# Altium schematic symbol library Module_Kits.SchLib: 10 symbols
Pins are listed as number, name and electrical type; pins without a type are passive.

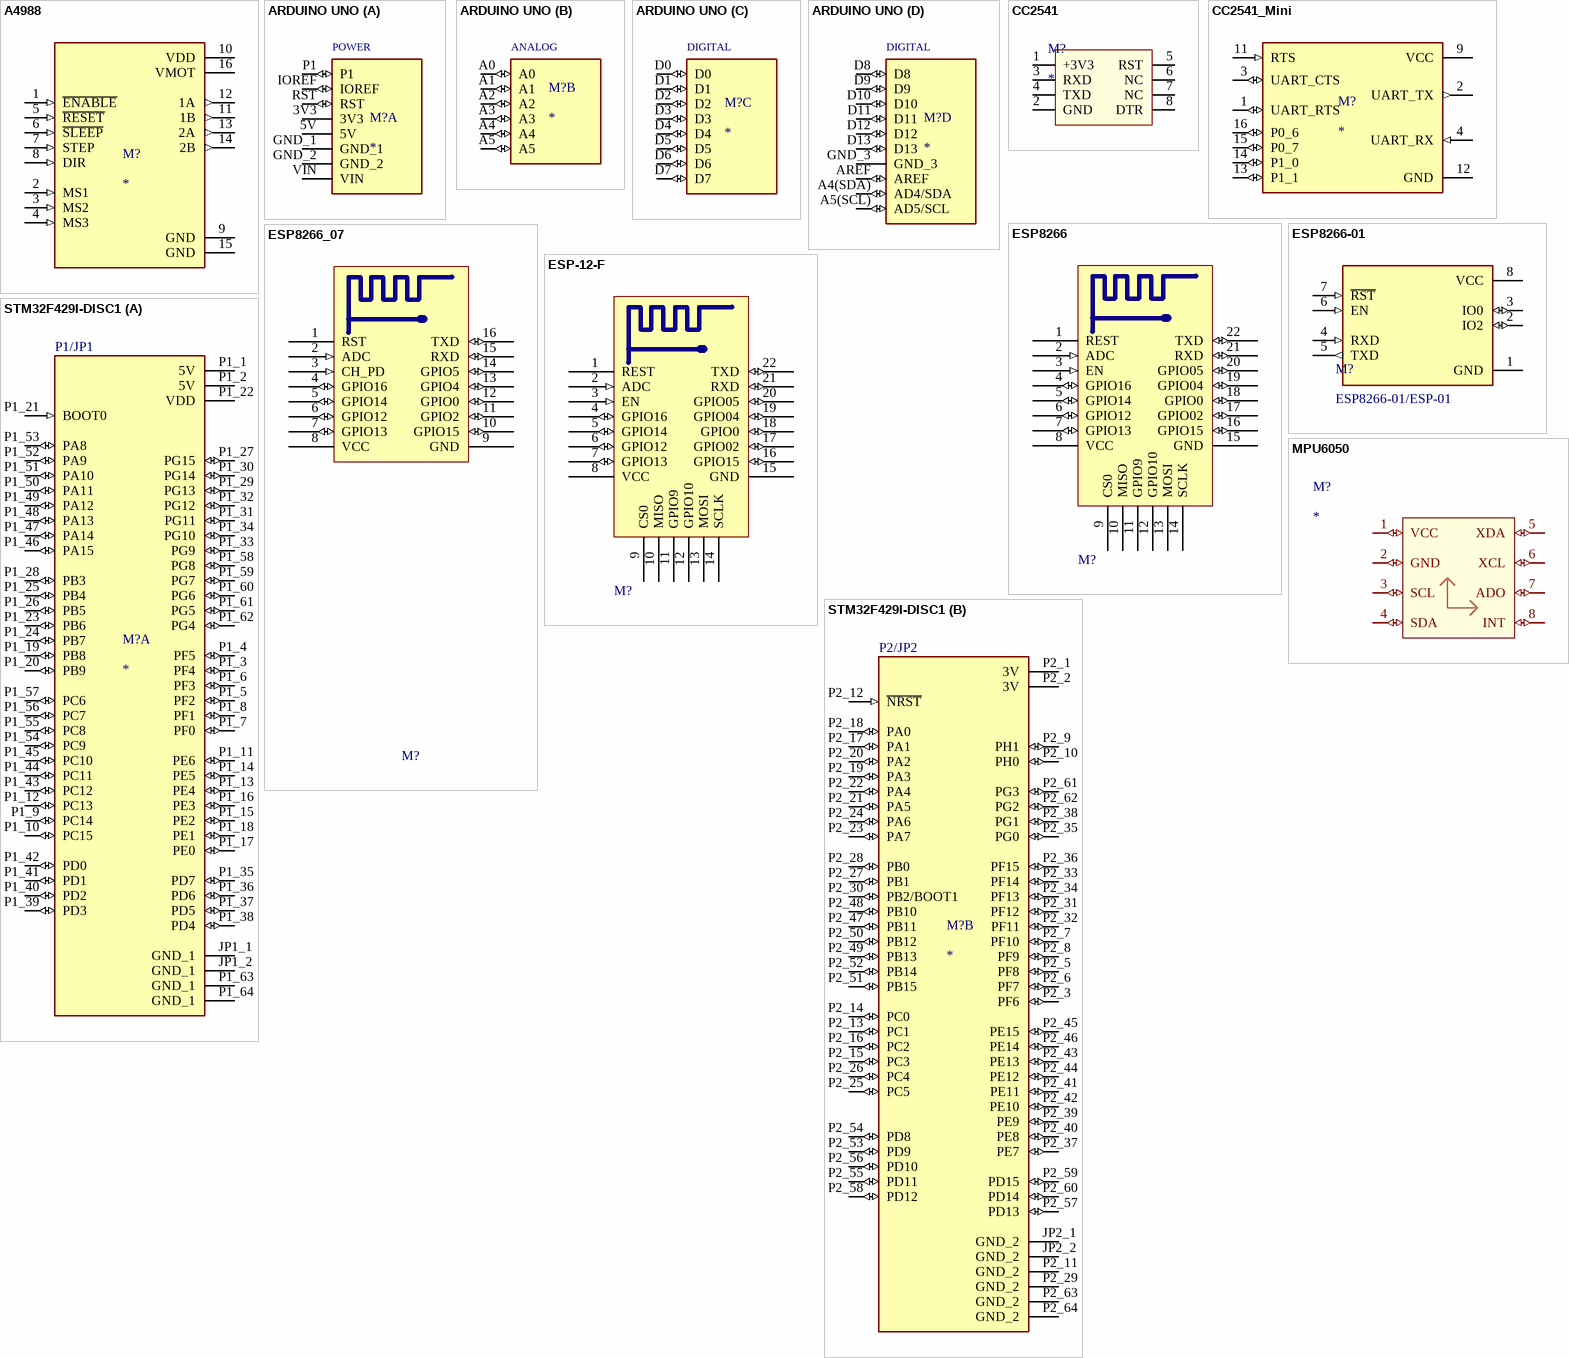
[diagram p0: symbols A4988 to STM32F429I-DISC1]

## A4988
designator M?
pins: 1 ~{ENABLE} (in), 2 MS1 (in), 3 MS2 (in), 4 MS3 (in), 5 ~{RESET} (in), 6 ~{SLEEP} (in), 7 STEP (in), 8 DIR (in), 9 GND (power), 10 VDD (power), 11 1B (out), 12 1A (out), 13 2A (out), 14 2B (out), 15 GND (power), 16 VMOT (power)

## ARDUINO UNO
designator M?
ATmega328P Arduino Uno R3 AVRÂ® ATmega AVR MCU 8-Bit Embedded Evaluation Board; MP: A000066; Value: *; Package: None; MF: Arduino; Price: None; Availability: Unavailable; SnapEDA_Link: https://www.snapeda.com/parts/A000066/Arduino/view-part/557638/?ref=snap
footprint ARDUINO_A000066; pin to pad A4(SDA)>A4(SDA
part A pins: 3V3 (power), 5V (power), GND_1 (power), GND_2 (power), IOREF (io), P1 (io), RST (io), VIN (power)
part B pins: A0 (io), A1 (io), A2 (io), A3 (io), A4 (io), A5 (io)
part C pins: D0 (io), D1 (io), D2 (io), D3 (io), D4 (io), D5 (io), D6 (io), D7 (io)
part D pins: A4(SDA) AD4/SDA (io), A5(SCL) AD5/SCL (io), AREF (io), D8 (io), D9 (io), D10 (io), D11 (io), D12 (io), D13 (io), GND_3 (power)
part A text: POWER
part B text: ANALOG
part C text: DIGITAL
part D text: DIGITAL

## CC2541
designator M?
pins: 1 +3V3, 2 GND, 3 RXD, 4 TXD, 5 RST, 6 NC, 7 NC, 8 DTR

## CC2541_Mini
designator M?
pins: 1 UART_RTS (io), 2 UART_TX (out), 3 UART_CTS (io), 4 UART_RX (in), 9 VCC (power), 11 RTS (in), 12 GND (power), 13 P1_1 (io), 14 P1_0 (io), 15 P0_7 (io), 16 P0_6 (io)

## ESP8266
designator M?, comment ESP8266 Module  (value not drawn)
ESP-12F WiFi Module; Part Number: ESP-12E; Reviewer: Fenrrich; ComponentLink1Description: Datasheet; ComponentLink1URL: https://wiki.ai-thinker.com/_media/esp8266/a014ps01.pdf; ComponentLink2Description: Manufacturer URL; ComponentLink2URL: https://wiki.ai-thinker.com; Publised: 06-May-2019; Publisher: Cynetik Group; Last Data Reviewer: 06-May-2019
pins: 1 REST, 2 ADC (in), 3 EN (in), 4 GPIO16 (io), 5 GPIO14 (io), 6 GPIO12 (io), 7 GPIO13 (io), 8 VCC (power), 9 CS0 "GPIO14 or SPI CLK", 10 MISO "GPIO12 or SPIQ", 11 GPIO9 "GPIO13 or SPID", 12 GPIO10 "GPIO15 or SPICS", 13 MOSI "GPIO2 or TX", 14 SCLK "GPIO0 or SPICS2", 15 GND (power), 16 GPIO15 (io), 17 GPIO02 (io), 18 GPIO0 (io), 19 GPIO04 (io), 20 GPIO05 (io), 21 RXD (io), 22 TXD (io)

## ESP8266-01
designator M?, comment ESP8266-01/ESP-01
pins: 1 GND (power), 2 IO2 (io), 3 IO0 (io), 4 RXD (in), 5 TXD (out), 6 EN (in), 7 ~{RST} (in), 8 VCC (power)

## ESP8266_07
designator M?, comment ESP8266 Module  (value not drawn)
ESP-07 WiFi Module; Part Number: ESP-12E; Reviewer: Fenrrich; ComponentLink1Description: Datasheet; ComponentLink1URL: https://wiki.ai-thinker.com/_media/esp8266/a014ps01.pdf; ComponentLink2Description: Manufacturer URL; ComponentLink2URL: https://wiki.ai-thinker.com; Publised: 06-May-2019; Publisher: Cynetik Group; Last Data Reviewer: 06-May-2019
pins: 1 RST, 2 ADC (in), 3 CH_PD (in), 4 GPIO16 (io), 5 GPIO14 (io), 6 GPIO12 (io), 7 GPIO13 (io), 8 VCC (power), 9 GND (power), 10 GPIO15 (io), 11 GPIO2 (io), 12 GPIO0 (io), 13 GPIO4 (io), 14 GPIO5 (io), 15 RXD (io), 16 TXD (io)

## ESP-12-F
designator M?, comment ESP-12-F Module  (value not drawn)
ESP-12F WiFi Module; Part Number: ESP-12E; Reviewer: Fenrrich; ComponentLink1Description: Datasheet; ComponentLink1URL: https://wiki.ai-thinker.com/_media/esp8266/a014ps01.pdf; ComponentLink2Description: Manufacturer URL; ComponentLink2URL: https://wiki.ai-thinker.com; Publised: 06-May-2019; Publisher: Cynetik Group; Last Data Reviewer: 06-May-2019
pins: 1 REST, 2 ADC (in), 3 EN (in), 4 GPIO16 (io), 5 GPIO14 (io), 6 GPIO12 (io), 7 GPIO13 (io), 8 VCC (power), 9 CS0 "GPIO14 or SPI CLK", 10 MISO "GPIO12 or SPIQ", 11 GPIO9 "GPIO13 or SPID", 12 GPIO10 "GPIO15 or SPICS", 13 MOSI "GPIO2 or TX", 14 SCLK "GPIO0 or SPICS2", 15 GND (power), 16 GPIO15 (io), 17 GPIO02 (io), 18 GPIO0 (io), 19 GPIO04 (io), 20 GPIO05 (io), 21 RXD (io), 22 TXD (io)

## MPU6050
designator M?
pins: 1 VCC (io), 2 GND (io), 3 SCL (io), 4 SDA (io), 5 XDA (io), 6 XCL (io), 7 ADO (io), 8 INT (io)

## STM32F429I-DISC1
designator M?
STM32F429 Discovery STM32F4 ARMÂ® CortexÂ®-M4 MCU 32-Bit Embedded Evaluation Board; MF: STMicroelectronics; MP: STM32F429I-DISC1; SnapEDA_Link: https://www.snapeda.com/parts/STM32F429I-DISC1/STMicroelectronics/view-part/504905/?ref=snap; Price: None; Value: *; Availability: Unavailable; Package: SOIC-14 STMicroelectronics
footprint MODULE_STM32F429I-DISC1
part A pins: JP1_1 GND_1 (power), JP1_2 GND_1 (power), P1_1 5V (power), P1_2 5V (power), P1_3 PF4 (io), P1_4 PF5 (io), P1_5 PF2 (io), P1_6 PF3 (io), P1_7 PF0 (io), P1_8 PF1 (io), P1_9 PC14 (io), P1_10 PC15 (io), P1_11 PE6 (io), P1_12 PC13 (io), P1_13 PE4 (io), P1_14 PE5 (io), P1_15 PE2 (io), P1_16 PE3 (io), P1_17 PE0 (io), P1_18 PE1 (io), P1_19 PB8 (io), P1_20 PB9 (io), P1_21 BOOT0 (in), P1_22 VDD (power), P1_23 PB6 (io), P1_24 PB7 (io), P1_25 PB4 (io), P1_26 PB5 (io), P1_27 PG15 (io), P1_28 PB3 (io), P1_29 PG13 (io), P1_30 PG14 (io), P1_31 PG11 (io), P1_32 PG12 (io), P1_33 PG9 (io), P1_34 PG10 (io), P1_35 PD7 (io), P1_36 PD6 (io), P1_37 PD5 (io), P1_38 PD4 (io), P1_39 PD3 (io), P1_40 PD2 (io), P1_41 PD1 (io), P1_42 PD0 (io), P1_43 PC12 (io), P1_44 PC11 (io), P1_45 PC10 (io), P1_46 PA15 (io), P1_47 PA14 (io), P1_48 PA13 (io), P1_49 PA12 (io), P1_50 PA11 (io), P1_51 PA10 (io), P1_52 PA9 (io), P1_53 PA8 (io), P1_54 PC9 (io), P1_55 PC8 (io), P1_56 PC7 (io), P1_57 PC6 (io), P1_58 PG8 (io), P1_59 PG7 (io), P1_60 PG6 (io), P1_61 PG5 (io), P1_62 PG4 (io), P1_63 GND_1 (power), P1_64 GND_1 (power)
part B pins: JP2_1 GND_2 (power), JP2_2 GND_2 (power), P2_1 3V (power), P2_2 3V (power), P2_3 PF6 (io), P2_5 PF8 (io), P2_6 PF7 (io), P2_7 PF10 (io), P2_8 PF9 (io), P2_9 PH1 (io), P2_10 PH0 (io), P2_11 GND_2 (power), P2_12 ~{NRST} (in), P2_13 PC1 (io), P2_14 PC0 (io), P2_15 PC3 (io), P2_16 PC2 (io), P2_17 PA1 (io), P2_18 PA0 (io), P2_19 PA3 (io), P2_20 PA2 (io), P2_21 PA5 (io), P2_22 PA4 (io), P2_23 PA7 (io), P2_24 PA6 (io), P2_25 PC5 (io), P2_26 PC4 (io), P2_27 PB1 (io), P2_28 PB0 (io), P2_29 GND_2 (power), P2_30 PB2/BOOT1 (io), P2_31 PF12 (io), P2_32 PF11 (io), P2_33 PF14 (io), P2_34 PF13 (io), P2_35 PG0 (io), P2_36 PF15 (io), P2_37 PE7 (io), P2_38 PG1 (io), P2_39 PE9 (io), P2_40 PE8 (io), P2_41 PE11 (io), P2_42 PE10 (io), P2_43 PE13 (io), P2_44 PE12 (io), P2_45 PE15 (io), P2_46 PE14 (io), P2_47 PB11 (io), P2_48 PB10 (io), P2_49 PB13 (io), P2_50 PB12 (io), P2_51 PB15 (io), P2_52 PB14 (io), P2_53 PD9 (io), P2_54 PD8 (io), P2_55 PD11 (io), P2_56 PD10 (io), P2_57 PD13 (io), P2_58 PD12 (io), P2_59 PD15 (io), P2_60 PD14 (io), P2_61 PG3 (io), P2_62 PG2 (io), P2_63 GND_2 (power), P2_64 GND_2 (power)
part A text: P1/JP1
part B text: P2/JP2